# Altium footprint library BF14 ADװ_1.PcbLib: 1 footprints
Each footprint in its own frame and in the unit in brackets; x right, y up, seen from the top. Pads: shape width x height; smd on the part's side, far side on the other; paste and mask are expansions set on the pad; w line width, h text height; cw(c..) or ccw(c..) is an arc to the next point about the centre after c.
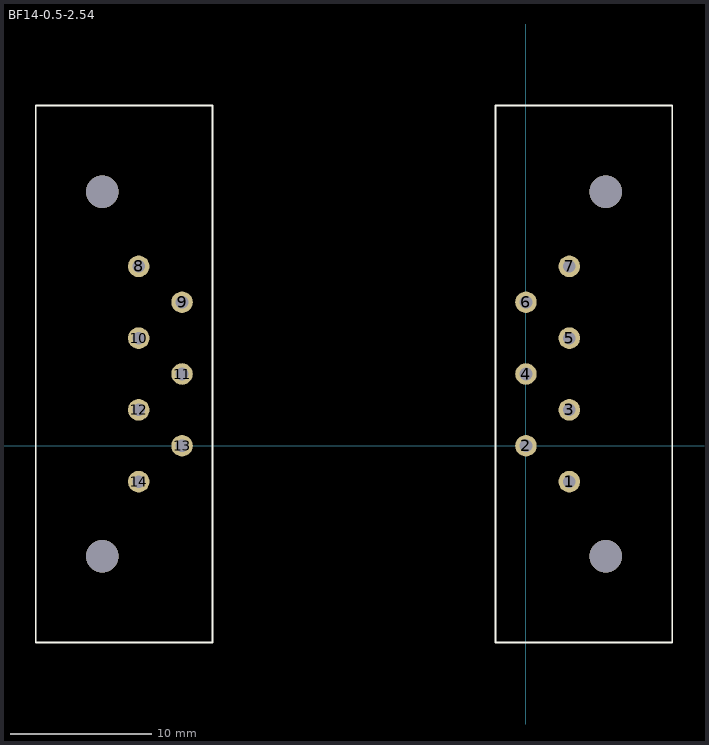
[diagram p0: the footprint, top view; thin cyan lines are the x and y axes]

## BF14-0.5-2.54 [mil]
height 763.78
pads (14):
  round 60 hole 35.43: 1(120.87,-100) 2(0,0) 3(120.87,100) 4(0,200) 5(120.87,300) 6(0,400) 7(120.87,500) 8(-1079.21,500) 9(-958.35,400) 10(-1079.21,300) 11(-958.35,200) 12(-1079.21,100) 13(-958.35,0) 14(-1079.21,-100)
via 222.44,-307.87 diameter 90.55 hole 90.55
via 222.44,707.87 diameter 90.55 hole 90.55
via -1180.79,-307.87 diameter 90.55 hole 90.55
via -1180.79,707.87 diameter 90.55 hole 90.55
Top Overlay:
  lines w5: -1365.83,-548.03 -1365.83,948.03 -873.7,948.03 -873.7,-548.03 -1365.83,-548.03 ; -84.65,-548.03 -84.65,948.03 407.48,948.03 407.48,-548.03 -84.65,-548.03